# EAGLE library part DIN41612-B64-FEMALE (library Traficon)
Manufacturer: Pancon Angled 90°: CNDIN064F2 Product number: 100-064-533 Straight: CNDIN064F1-1 DIN41612/B Straight-Female 09 02 264 6824
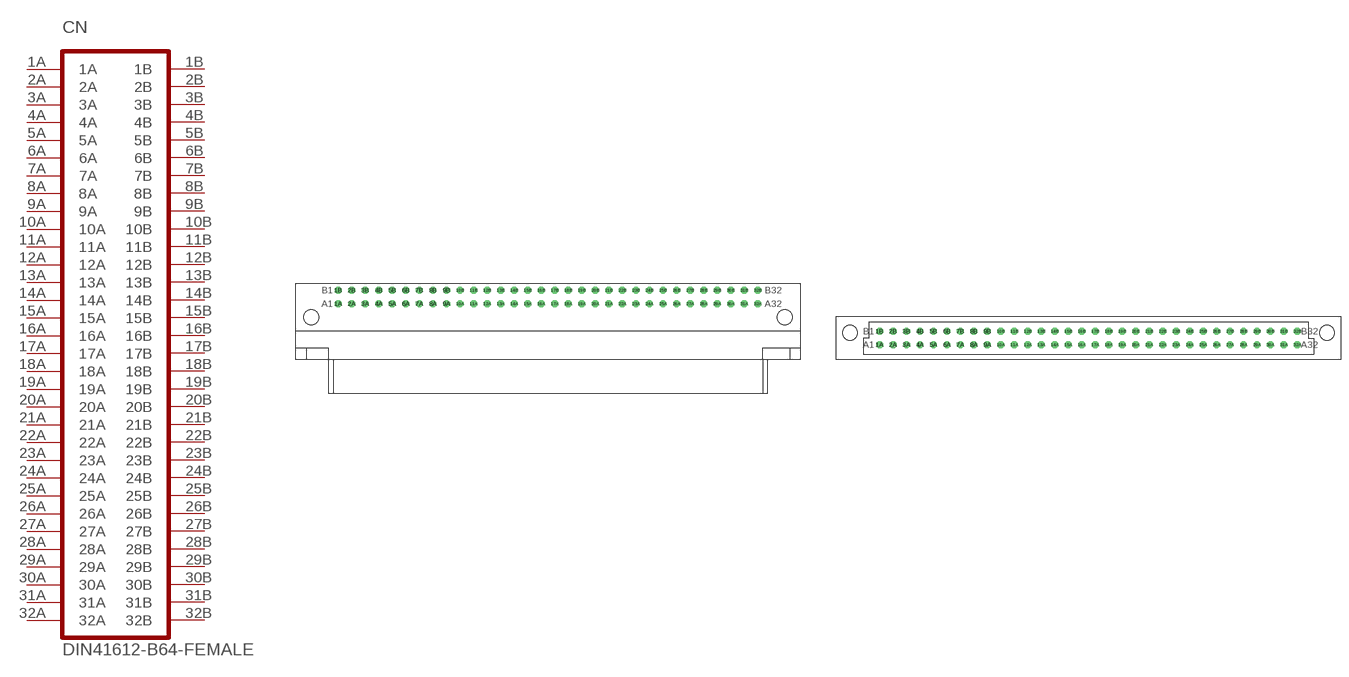
[diagram p84: symbol with the pads of DIN41612-B64-FEMALE-90°; footprints DIN41612-B64-FEMALE-90°, DIN41612-B64-FEMALE-STRAIGHT]

Designator prefix CN

## DIN41612-B64-FEMALE-90°  [DIN41612-B64-FEMALE-90°]
1A  1A
1B  1B
2A  2A
2B  2B
3A  3A
3B  3B
4A  4A
4B  4B
5A  5A
5B  5B
6A  6A
6B  6B
7A  7A
7B  7B
8A  8A
8B  8B
9A  9A
9B  9B
10A  10A
10B  10B
11A  11A
11B  11B
12A  12A
12B  12B
13A  13A
13B  13B
14A  14A
14B  14B
15A  15A
15B  15B
16A  16A
16B  16B
17A  17A
17B  17B
18A  18A
18B  18B
19A  19A
19B  19B
20A  20A
20B  20B
21A  21A
21B  21B
22A  22A
22B  22B
23A  23A
23B  23B
24A  24A
24B  24B
25A  25A
25B  25B
26A  26A
26B  26B
27A  27A
27B  27B
28A  28A
28B  28B
29A  29A
29B  29B
30A  30A
30B  30B
31A  31A
31B  31B
32A  32A
32B  32B

## DIN41612-B64-FEMALE-STRAIGHT  [DIN41612-B64-FEMALE-STRAIGHT]
Pads as for DIN41612-B64-FEMALE-90°

## Footprint DIN41612-B64-FEMALE-90° (pad centres in mm)
drill 0.8 octagon: 1A -40.64,6.35; 1B -40.64,8.89; 2A -38.1,6.35; 2B -38.1,8.89; 3A -35.56,6.35; 3B -35.56,8.89; 4A -33.02,6.35; 4B -33.02,8.89; 5A -30.48,6.35; 5B -30.48,8.89; 6A -27.94,6.35; 6B -27.94,8.89; 7A -25.4,6.35; 7B -25.4,8.89; 8A -22.86,6.35; 8B -22.86,8.89; 9A -20.32,6.35; 9B -20.32,8.89; 10A -17.78,6.35; 10B -17.78,8.89; 11A -15.24,6.35; 11B -15.24,8.89; 12A -12.7,6.35; 12B -12.7,8.89; 13A -10.16,6.35; 13B -10.16,8.89; 14A -7.62,6.35; 14B -7.62,8.89; 15A -5.08,6.35; 15B -5.08,8.89; 16A -2.54,6.35; 16B -2.54,8.89; 17A 0,6.35; 17B 0,8.89; 18A 2.54,6.35; 18B 2.54,8.89; 19A 5.08,6.35; 19B 5.08,8.89; 20A 7.62,6.35; 20B 7.62,8.89; 21A 10.16,6.35; 21B 10.16,8.89; 22A 12.7,6.35; 22B 12.7,8.89; 23A 15.24,6.35; 23B 15.24,8.89; 24A 17.78,6.35; 24B 17.78,8.89; 25A 20.32,6.35; 25B 20.32,8.89; 26A 22.86,6.35; 26B 22.86,8.89; 27A 25.4,6.35; 27B 25.4,8.89; 28A 27.94,6.35; 28B 27.94,8.89; 29A 30.48,6.35; 29B 30.48,8.89; 30A 33.02,6.35; 30B 33.02,8.89; 31A 35.56,6.35; 31B 35.56,8.89; 32A 38.1,6.35; 32B 38.1,8.89
hole 2.8 at 43.18,3.81
hole 2.8 at -45.72,3.81

## Footprint DIN41612-B64-FEMALE-STRAIGHT (pad centres in mm)
drill 0.8 octagon: 1A -38.1,-1.27; 1B -38.1,1.27; 2A -35.56,-1.27; 2B -35.56,1.27; 3A -33.02,-1.27; 3B -33.02,1.27; 4A -30.48,-1.27; 4B -30.48,1.27; 5A -27.94,-1.27; 5B -27.94,1.27; 6A -25.4,-1.27; 6B -25.4,1.27; 7A -22.86,-1.27; 7B -22.86,1.27; 8A -20.32,-1.27; 8B -20.32,1.27; 9A -17.78,-1.27; 9B -17.78,1.27; 10A -15.24,-1.27; 10B -15.24,1.27; 11A -12.7,-1.27; 11B -12.7,1.27; 12A -10.16,-1.27; 12B -10.16,1.27; 13A -7.62,-1.27; 13B -7.62,1.27; 14A -5.08,-1.27; 14B -5.08,1.27; 15A -2.54,-1.27; 15B -2.54,1.27; 16A 0,-1.27; 16B 0,1.27; 17A 2.54,-1.27; 17B 2.54,1.27; 18A 5.08,-1.27; 18B 5.08,1.27; 19A 7.62,-1.27; 19B 7.62,1.27; 20A 10.16,-1.27; 20B 10.16,1.27; 21A 12.7,-1.27; 21B 12.7,1.27; 22A 15.24,-1.27; 22B 15.24,1.27; 23A 17.78,-1.27; 23B 17.78,1.27; 24A 20.32,-1.27; 24B 20.32,1.27; 25A 22.86,-1.27; 25B 22.86,1.27; 26A 25.4,-1.27; 26B 25.4,1.27; 27A 27.94,-1.27; 27B 27.94,1.27; 28A 30.48,-1.27; 28B 30.48,1.27; 29A 33.02,-1.27; 29B 33.02,1.27; 30A 35.56,-1.27; 30B 35.56,1.27; 31A 38.1,-1.27; 31B 38.1,1.27; 32A 40.64,-1.27; 32B 40.64,1.27
hole 2.8 at 46.228,1.016
hole 2.8 at -43.688,1.016